# Altium footprint library ES_Pcb_x.PcbLib: 354 footprints (part 19 of 23)
Each footprint in its own frame and in the unit in brackets; x right, y up, seen from the top. Pads: shape width x height; smd on the part's side, far side on the other; paste and mask are expansions set on the pad; w line width, h text height; cw(c..) or ccw(c..) is an arc to the next point about the centre after c.
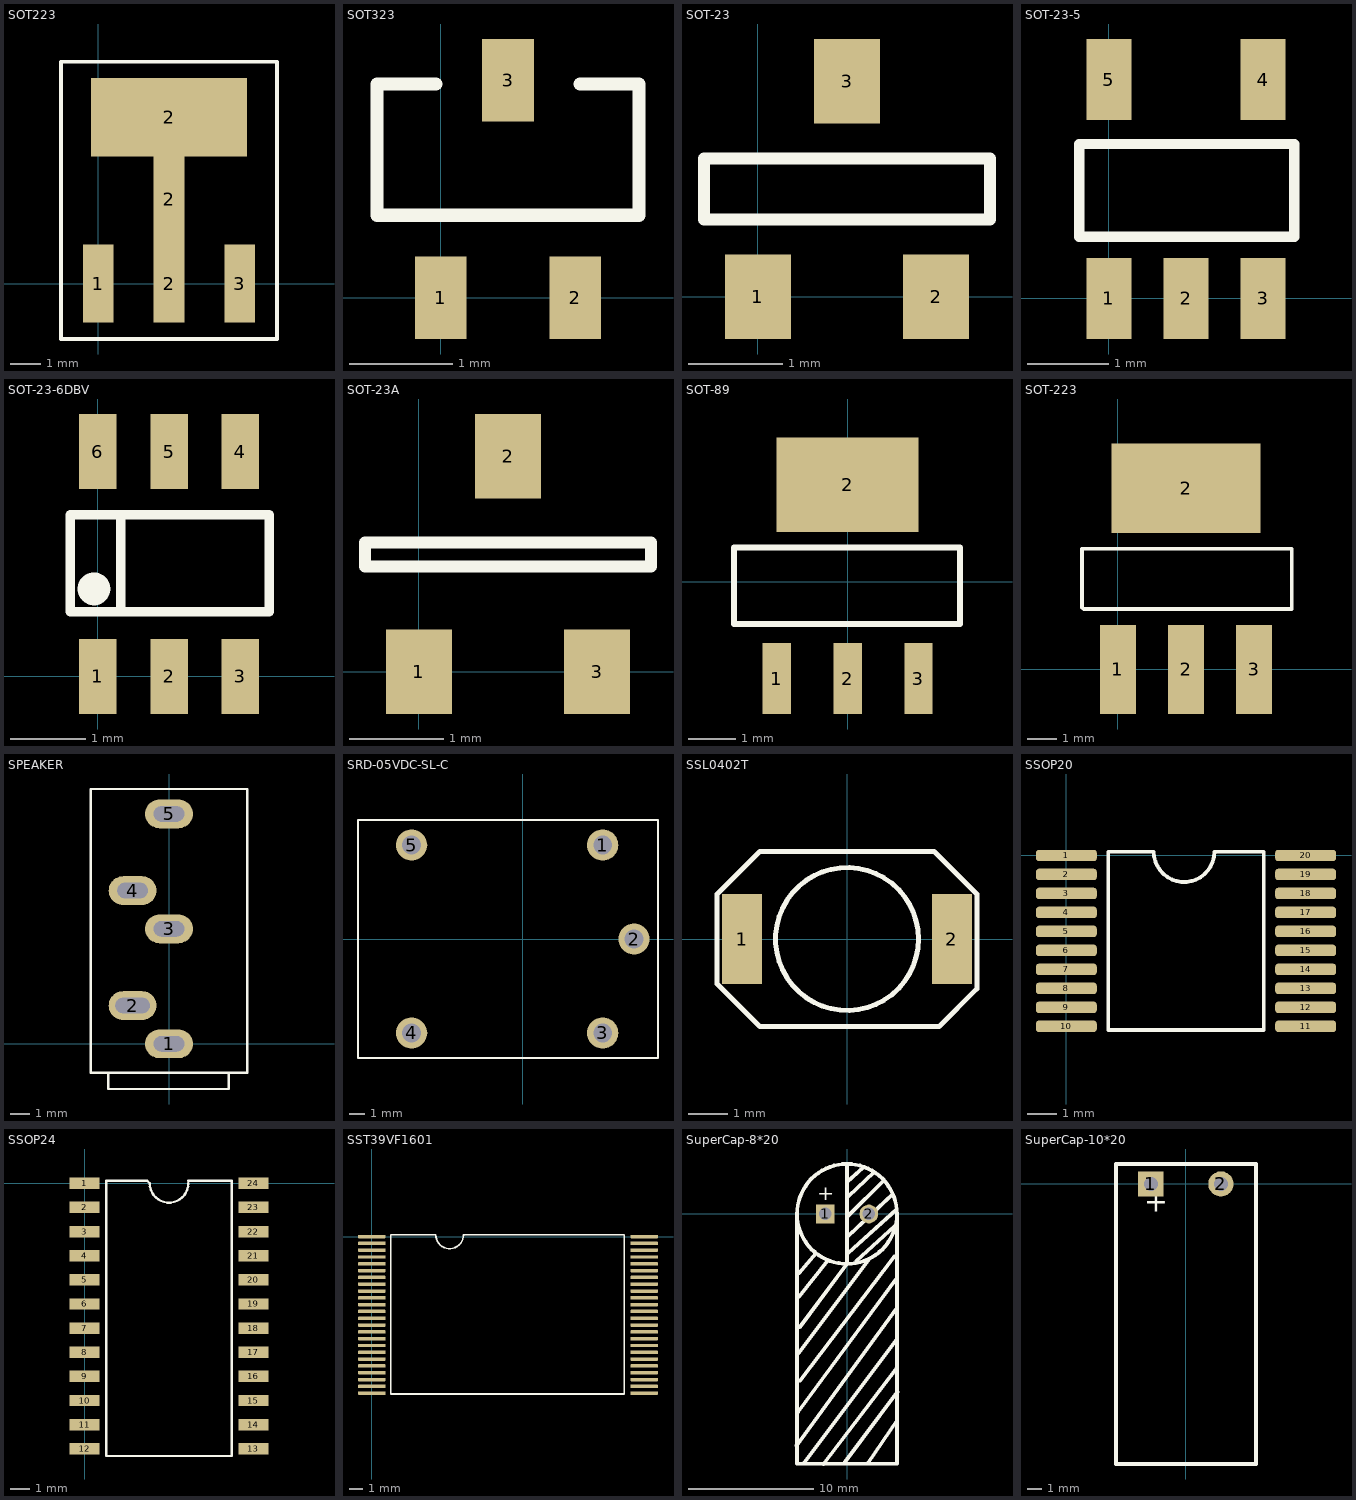
[diagram p18: the footprints below, top view; thin cyan lines are the x and y axes]

## SOT223 [mm]
pads (5):
  rect 1x2.54 smd: 1(0,0) 2(2.3,0) 3(4.6,0)
  rect 1x3 smd: 2(2.3,2.743)
  rect 5.08x2.54 smd: 2(2.3,5.4)
Top Overlay:
  lines w0.127: 5.776,7.2 -1.2,7.2 -1.2,-1.8 5.8,-1.8 5.8,7.2

## SOT323 [mm]
pads (3):
  rect 0.5x0.8 smd: 1(0,0) 2(1.3,0) 3(0.65,2.106)
Top Overlay:
  lines w0.127: -0.048,2.069 -0.62,2.069 -0.62,0.799 1.92,0.799 1.92,2.069 1.349,2.069

## SOT-23 [mm]
pads (3):
  rect 0.7x0.9 smd: 1(0,0) 2(1.9,0) 3(0.95,2.3)
Top Overlay:
  lines w0.127: -0.574,0.825 -0.574,1.473 2.474,1.473 2.474,0.825 -0.574,0.825

## SOT-23-5 [mm]
pads (5):
  rect 0.55x1 smd: 1(0,0) 2(0.95,0) 3(1.9,0) 4(1.9,2.7) 5(0,2.7)
Top Overlay:
  lines w0.127: -0.365,0.762 2.286,0.762 2.286,1.905 -0.365,1.905 -0.365,0.762

## SOT-23-6DBV [mm]
pads (6):
  rect 0.5x1 smd: 1(0,0) 2(0.95,0) 3(1.9,0) 4(1.9,3) 5(0.95,3) 6(0,3)
Top Overlay:
  circle w0.254: c-0.051,1.168 r0.092
  lines w0.127: 0.305,0.914 0.305,2.159 ; -0.365,0.864 -0.365,2.159 2.286,2.159 2.286,0.864 -0.365,0.864

## SOT-23A [mm]
pads (3):
  rect 0.7x0.9 smd: 1(0,0) 2(0.95,2.3) 3(1.9,0)
Top Overlay:
  lines w0.127: -0.574,1.125 -0.574,1.379 2.474,1.379 2.474,1.125 -0.574,1.125

## SOT-89 [mm]
height 1.5
pads (4):
  rect 0.6x1.5 smd: 1(-1.5,-2.05) 2(0,-2.05) 3(1.5,-2.05)
  rect 3x2 smd: 2(0,2.05)
Top Overlay:
  lines w0.127: -2.4,-0.9 -2.4,0.725 2.375,0.725 2.375,-0.9 -2.4,-0.9

## SOT-223 [mm]
pads (4):
  rect 1.2x3 smd: 1(0,0) 2(2.29,0) 3(4.58,0)
  rect 5x3 smd: 2(2.29,6.096)
Top Overlay:
  lines w0.127: 5.338,4.064 5.846,4.064 5.846,2.032 -1.154,2.032 -1.21,2.088 -1.21,4.064 5.79,4.064

## SPEAKER [mm]
pads (5):
  oval 2.5x1.5 hole 0.8 slot 1.6 at 0 deg: 1(0,0) 3(0,6) 4(-1.9,8) 5(0,12)
  oval 2.5x1.5 hole 0.8 slot 1.8 at 0 deg: 2(-1.9,2)
Top Overlay:
  lines w0.127: -4.09,-1.5 4.09,-1.5 4.09,13.3 -4.09,13.3 -4.09,-1.5 ; -3.175,-2.355 3.115,-2.355 3.115,-1.5 -3.175,-1.5 -3.175,-2.355

## SRD-05VDC-SL-C [mm]
pads (5):
  round 2 hole 1.2: 1(5.1,6) 2(7.1,0) 3(5.1,-6) 4(-7.1,-6) 5(-7.1,6)
Top Overlay:
  lines w0.127: -10.521,-7.6 -10.521,7.6 8.631,7.6 8.631,-7.6 -10.521,-7.6

## SSL0402T [mm]
pads (2):
  rect 1.02x2.3 smd: 1(-2.667,0) 2(2.667,0)
Top Overlay:
  circle w0.127: c0,0 r1.818
  lines w0.127: -1.397,-2.225 1.397,-2.225 ; -1.016,2.225 1.27,2.225 ; -3.302,-1.143 -3.302,1.143 -2.22,2.225 2.22,2.225 3.302,1.143 3.302,-1.27 2.347,-2.225 -2.22,-2.225 -3.302,-1.143

## SSOP20 [mil]
pads (20):
  rrect50% 80x15 smd: 1(0,0) 2(0,-25) 3(0,-50) 4(0,-75) 5(0,-100) 6(0,-125) 7(0,-150) 8(0,-175) 9(0,-200) 10(0,-225) 11(315,-225) 12(315,-200) 13(315,-175) 14(315,-150) 15(315,-125) 16(315,-100) 17(315,-75) 18(315,-50) 19(315,-25) 20(315,0)
Top Overlay:
  lines w5: 55,-230 55,5 115,5 ccw(c155,5) 195,5 260,5 260,-230 55,-230

## SSOP24 [mm]
pads (24):
  rect 1.6x0.6 smd: 1(0,0) 2(0,-1.27) 3(0,-2.54) 4(0,-3.81) 5(0,-5.08) 6(0,-6.35) 7(0,-7.62) 8(0,-8.89) 9(0,-10.16) 10(0,-11.43) 11(0,-12.7) 12(0,-13.97) 13(8.89,-13.97) 14(8.89,-12.7) 15(8.89,-11.43) 16(8.89,-10.16) 17(8.89,-8.89) 18(8.89,-7.62) 19(8.89,-6.35) 20(8.89,-5.08) 21(8.89,-3.81) 22(8.89,-2.54) 23(8.89,-1.27) 24(8.89,0)
Top Overlay:
  lines w0.127: 5.461,0 cw(c4.445,0) 3.429,0 3.302,0.127 1.143,0.127 1.143,-11.557 1.143,-14.351 1.376,-14.351 7.747,-14.351 7.747,0.127 5.461,0.127

## SST39VF1601 [mil]
pads (48):
  rrect50% 80x10 smd: 1(0,0) 2(0,-19.68) 3(0,-39.37) 4(0,-59.06) 5(0,-78.74) 6(0,-98.43) 7(0,-118.11) 8(0,-137.8) 9(0,-157.48) 10(0,-177.17) 11(0,-196.85) 12(0,-216.54) 13(0,-236.22) 14(0,-255.91) 15(0,-275.59) 16(0,-295.28) 17(0,-314.96) 18(0,-334.65) 19(0,-354.33) 20(0,-374.02) 21(0,-393.7) 22(0,-413.39) 23(0,-433.07) 24(0,-452.76) 25(787.4,-452.76) 26(787.4,-433.07) 27(787.4,-413.39) 28(787.4,-393.7) 29(787.4,-374.02) 30(787.4,-354.33) 31(787.4,-334.65) 32(787.4,-314.96) 33(787.4,-295.28) 34(787.4,-275.59) 35(787.4,-255.91) 36(787.4,-236.22) 37(787.4,-216.54) 38(787.4,-196.85) 39(787.4,-177.17) 40(787.4,-157.48) 41(787.4,-137.8) 42(787.4,-118.11) 43(787.4,-98.43) 44(787.4,-78.74) 45(787.4,-59.06) 46(787.4,-39.37) 47(787.4,-19.68) 48(787.4,0)
Top Overlay:
  lines w5: 55,-455 730,-455 730,5 265,5 cw(c225,5) 185,5 55,5 55,-455

## SuperCap-8*20 [mm]
pads (2):
  rect 1.5x1.5 hole 1: 1(-1.75,0)
  round 1.5 hole 1: 2(1.75,0)
Top Overlay:
  circle w0.313: c0,0 r4
  lines w0.3: -4.039,-18.542 4,-7.518 ; -4,0 -4,-20 4,-20 4,0 ; -3.912,-15.85 4,-5.105 ; -3.886,-11.151 1.778,-3.607 ; -3.835,-6.629 -1.524,-3.708 ; -3.835,-4.75 -2.464,-3.15 ; -3.785,-9.068 0,-4 0,4 ; -3.759,-13.36 3.81,-3.378 ; -3.48,-20 3.912,-10.109 ; -1.88,-20.015 4,-12.294 ; -0.178,-19.863 4.039,-14.249 ; 0,2.565 1.295,3.734 ; 0.076,-0.152 2.946,2.667 ; 0.102,-3.124 3.962,0.356 ; 0.102,-1.778 2.438,0.432 3.658,1.6 ; 0.102,1.397 2.184,3.353 ; 0.737,-3.759 3.835,-0.965 ; 1.694,-19.914 1.676,-19.939 4,-16.535
  text "+" at -2.388,0.711 h2.03

## SuperCap-10*20 [mm]
pads (2):
  rect 1.8x1.8 hole 1: 1(-2.5,0)
  round 1.8 hole 1: 2(2.5,0)
Top Overlay:
  lines w0.3: -4.978,-20 5,-20 5,1.422 -4.978,1.422 -4.978,-19.949
  text "+" at -2.972,-2.489 h2.54